# Altium schematic symbol library Sch_Lib.SchLib: 31 symbols
Pins are listed as number, name and electrical type; pins without a type are passive.

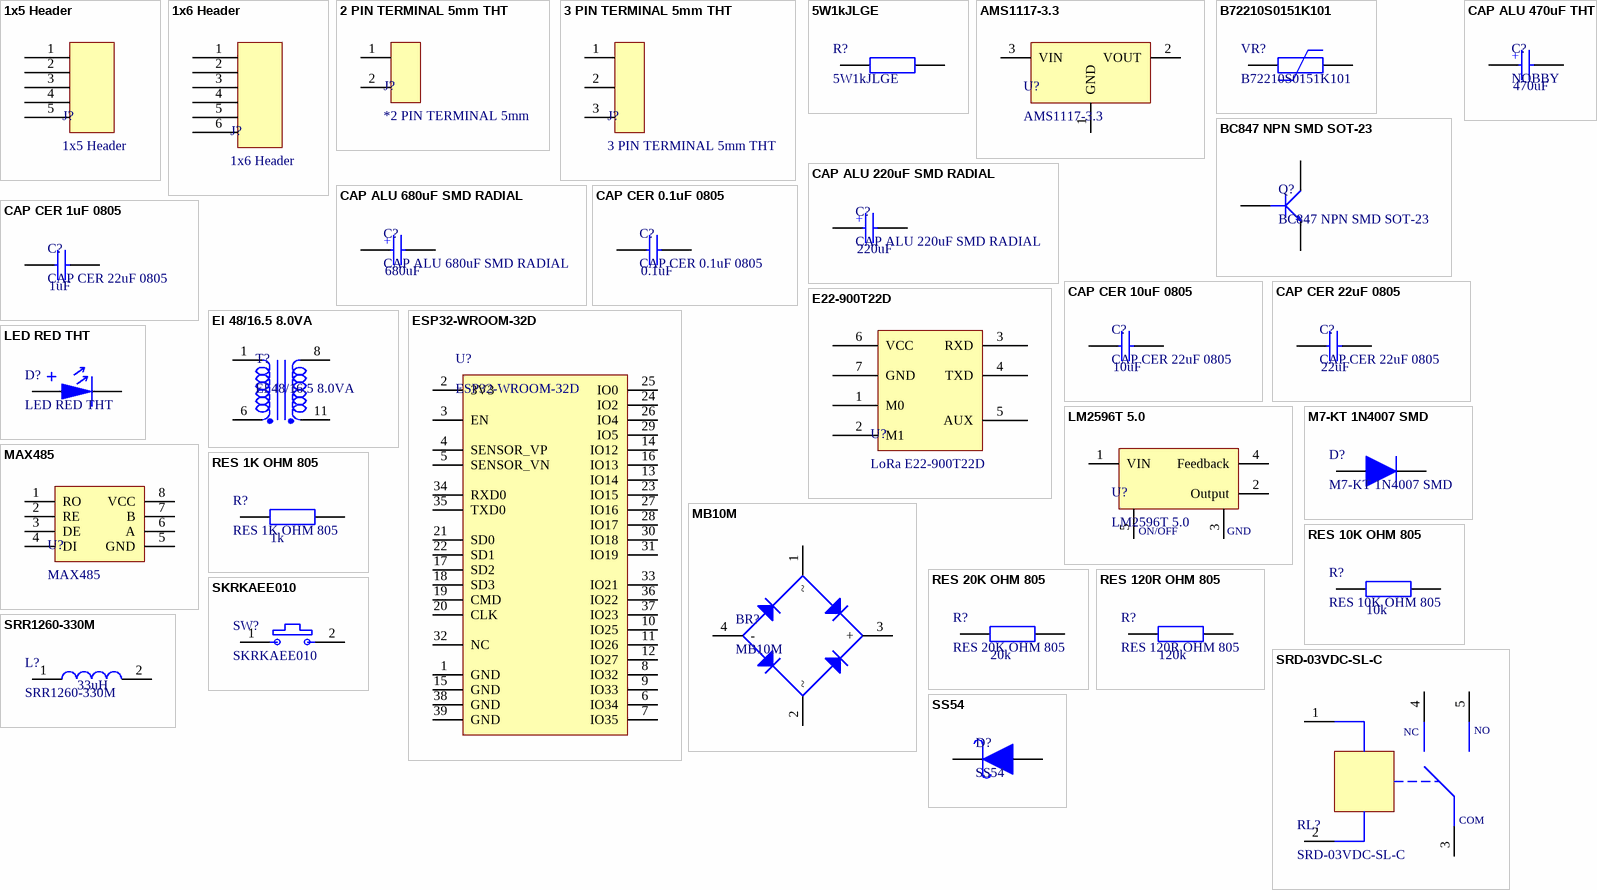
[diagram p0: symbols 1x5 Header to SS54]

## 1x5 Header
designator J?
footprint 1x5 Header
pins: 1, 2, 3, 4, 5

## 1x6 Header
designator J?
footprint 1x6 Header
pins: 1, 2, 3, 4, 5, 6

## 2 PIN TERMINAL 5mm THT
designator J?, comment *2 PIN TERMINAL 5mm
2 Position Wire to Board Terminal Block Horizontal with Board 0.197" (5.00mm) Through Hole
footprint 2 PIN TERMINAL 5mm THT
pins: 1, 2

## 3 PIN TERMINAL 5mm THT
designator J?
3 Position Wire to Board Terminal Block Horizontal with Board 0.197" (5.00mm) Through Hole
footprint 3 PIN TERMINAL 5mm THT
pins: 1, 2, 3

## 5W1kJLGE
designator R?
Resistor 5 Watt Cermet Wirewound Flameproof 1KOhm 5% Axial Lead
footprint 5W1kJLGE
pins: 1, 2

## AMS1117-3.3
designator U?
Sot223/Pkg 1-Amp 3.3-Volt Low Drop Out Voltage Regulatator
footprint AMS1117-3.3
pins: 1 GND, 2 VOUT, 3 VIN

## B72210S0151K101
designator VR?
240 V 2.5 kA Varistor 1 Circuit Through Hole Disc 10mm
footprint B72210S0151K101
pins: 1, 2

## BC847 NPN SMD SOT-23
designator Q?
BC847 Transistör NPN SMD SOT-23100mA, 45V
footprint BC847 NPN SMD SOT-23
pins: 1 B (power), 2 E (power), 3 C (power)

## CAP ALU 220uF SMD RADIAL
designator C?
CAP ALU 220uF SMD
footprint CAP ALU 220uF SMD RADIAL
pins: 1, 2
text: +; 220uF

## CAP ALU 470uF THT
designator C?, comment NOBBY
CAP ALU 470uF Normal
footprint CAP ALU 470uF THT
pins: 1, 2
text: +; 470uF

## CAP ALU 680uF SMD RADIAL
designator C?
CAP ALU 680uF SMD
footprint CAP ALU 680uF SMD RADIAL
pins: 1, 2
text: +; 680uF

## CAP CER 0.1uF 0805
designator C?
0.1uF 16V 10% x5R 805 SMD Capacitor
footprint CAP CER 0.1uF 0805
pins: 1, 2
text: 0.1uF

## CAP CER 1uF 0805
designator C?, comment CAP CER 22uF 0805
1uF 16V 10% x5R 805 SMD Capacitor
footprint CAP CER 1uF 0805
pins: 1, 2
text: 1uF

## CAP CER 10uF 0805
designator C?, comment CAP CER 22uF 0805
10uF 16V 10% x5R 805 SMD Capacitor
footprint CAP CER 10uF 0805
pins: 1, 2
text: 10uF

## CAP CER 22uF 0805
designator C?
22uF 16V 10% x5R 805 SMD Capacitor
footprint CAP CER 22uF 0805
pins: 1, 2
text: 22uF

## E22-900T22D
designator U?, comment LoRa E22-900T22D
868M/915M 22dBm DIP New LoRa Wireless Module
footprint E22-900T22D
pins: 1 M0, 2 M1, 3 RXD, 4 TXD, 5 AUX, 6 VCC, 7 GND

## El 48/16.5 8.0VA
designator T?
230VAC-6VAC Transformer 8VA
footprint El 48/16.5 8.0VA
pins: 1, 6, 8, 11

## ESP32-WROOM-32D
designator U?
SMD MODULE, ESP32-D0WDQ6, 32MBIT
footprint ESP32-WROOM-32D
pins: 1 GND, 2 3V3, 3 EN, 4 SENSOR_VP, 5 SENSOR_VN, 6 IO34, 7 IO35, 8 IO32, 9 IO33, 10 IO25, 11 IO26, 12 IO27, 13 IO14, 14 IO12, 15 GND, 16 IO13, 17 SD2, 18 SD3, 19 CMD, 20 CLK, 21 SD0, 22 SD1, 23 IO15, 24 IO2, 25 IO0, 26 IO4, 27 IO16, 28 IO17, 29 IO5, 30 IO18, 31 IO19, 32 NC, 33 IO21, 34 RXD0, 35 TXD0, 36 IO22, 37 IO23, 38 GND, 39 GND

## LED RED THT
designator D?
Throught LED
footprint LED RED THT
pins: 1 (power), 2 (power)

## LM2596T 5.0
designator U?
SIMPLE SWITCHER&reg; 4.5V to 40V, 3A Low Component Count Step-Down Regulator 5-TO-220
footprint LM2596T 5.0
pins: 1 VIN, 2 Output, 3 GND, 4 Feedback, 5 ON/OFF

## M7-KT 1N4007 SMD
designator D?
M7-KT - 1N4007 - SMD Diyot 1A 1000V
footprint M7-KT 1N4007 SMD
pins: 1 (power), 2 (power)

## MAX485
designator U?
1/1 Transceiver Half RS422, RS485 8-uMAX-EP|8-uSOP-EP
footprint MAX485
pins: 1 RO, 2 RE, 3 DE, 4 DI, 5 GND, 6 A, 7 B, 8 VCC

## MB10M
designator BR?
Bridge Diode AC-DC
footprint MB10M
pins: 1 ~, 2 ~, 3 +, 4 -

## RES 1K OHM 805
designator R?
1K 805 1/8 SMD Direnç
footprint RES 1K OHM 805
pins: 1, 2
text: 1k

## RES 10K OHM 805
designator R?
10K 805 1/8 SMD Direnç
footprint RES 10K OHM 805
pins: 1, 2
text: 10k

## RES 20K OHM 805
designator R?
20K 805 1/8 SMD Direnç
footprint RES 20K OHM 805
pins: 1, 2
text: 20k

## RES 120R OHM 805
designator R?
120Ohm 805 1/8 SMD Direnç
footprint RES 120R OHM 805
pins: 1, 2
text: 120k

## SKRKAEE010
designator SW?
Switch Tactile N.O. SPST Round Button Gull Wing 0.05A 12VDC 1.57N SMD T/R
footprint SKRKAEE010
pins: 1, 2

## SRD-03VDC-SL-C
designator RL?
Relays General Purpose Non Latching 3VDC SPDT 10A (250VAC) Max 5PIN
footprint SRD-03VDC-SL-C
pins: 1 +, 2 -, 3 COM, 4 NC, 5 NO

## SRR1260-330M
designator L?
33 µH Shielded Drum Core, Wirewound Inductor 3 A 60mOhm Max Nonstandard
footprint SRR1260-330M
pins: 1, 2
text: 33uH

## SS54
designator D?
SS54 Schottky 40V 5A Diode
footprint SS54
pins: 1 (power), 2 (power)